# Altium footprint library PNY-07006.PcbLib: 1 footprints
Each footprint in its own frame and in the unit in brackets; x right, y up, seen from the top. Pads: shape width x height; smd on the part's side, far side on the other; paste and mask are expansions set on the pad; w line width, h text height; cw(c..) or ccw(c..) is an arc to the next point about the centre after c.
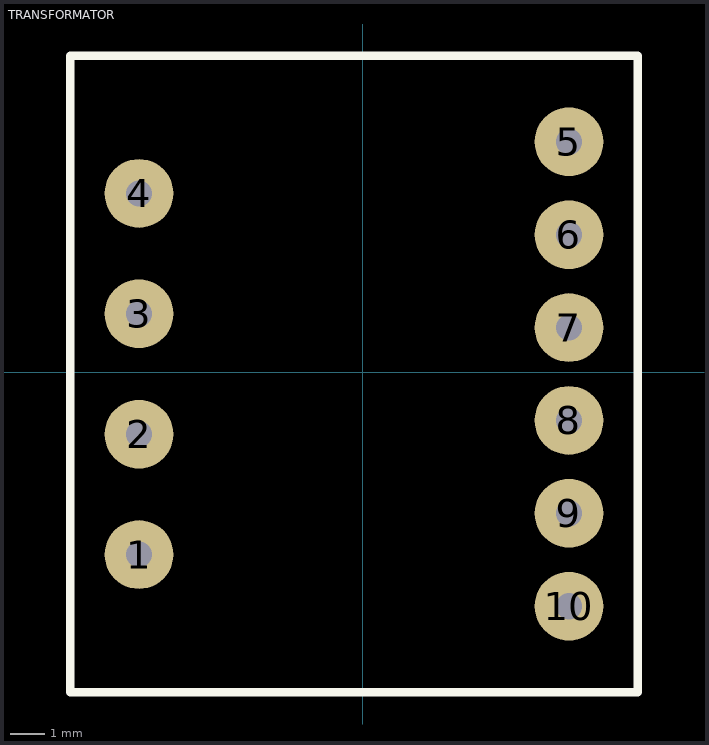
[diagram p0: the footprint, top view; thin cyan lines are the x and y axes]

## TRANSFORMATOR [mm]
pads (10):
  round 2 hole 0.762: 1(-6.5,-5.3) 2(-6.5,-1.8) 3(-6.5,1.7) 4(-6.5,5.2) 5(6,6.7) 6(6,4) 7(6,1.3) 8(6,-1.4) 9(6,-4.1) 10(6,-6.8)
Top Overlay:
  lines w0.254: -8.5,-9.3 8,-9.3 8,9.2 -8.5,9.2 -8.5,-9.3